# Altium footprint library TSSOP.PcbLib: 12 footprints
Each footprint in its own frame and in the unit in brackets; x right, y up, seen from the top. Pads: shape width x height; smd on the part's side, far side on the other; paste and mask are expansions set on the pad; w line width, h text height; cw(c..) or ccw(c..) is an arc to the next point about the centre after c.
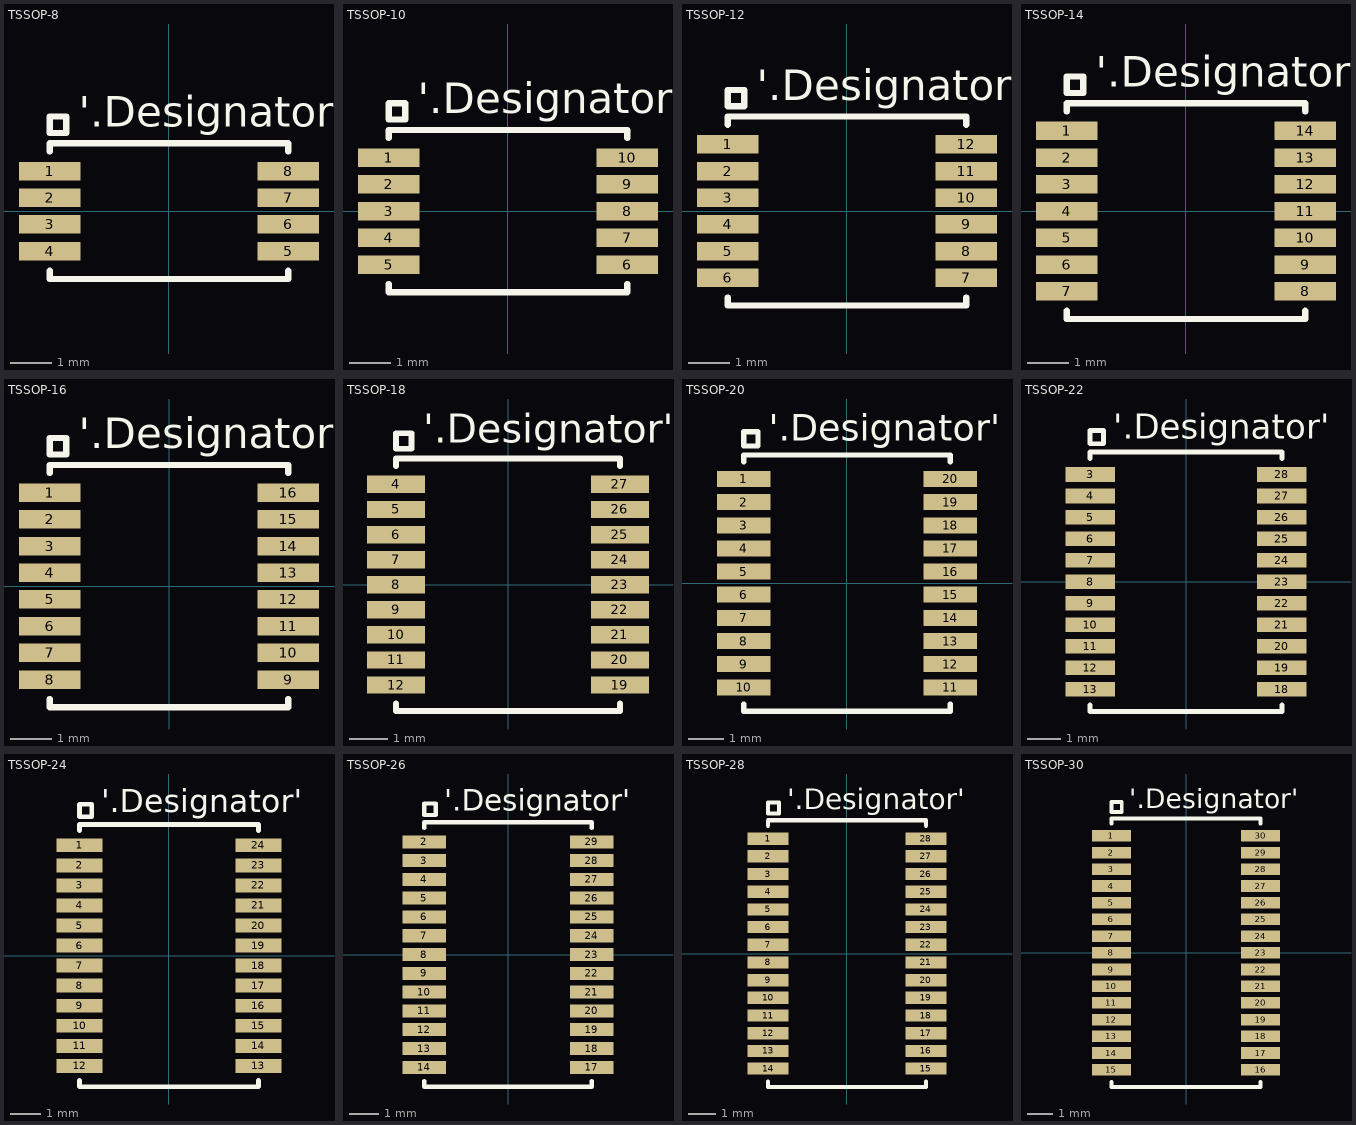
[diagram p0: the footprints below, top view; thin cyan lines are the x and y axes]

## TSSOP-8 [mm]
pads (8):
  rect 1.5x0.45 smd: 1(-2.9,0.975) 2(-2.9,0.325) 3(-2.9,-0.325) 4(-2.9,-0.975) 5(2.9,-0.975) 6(2.9,-0.325) 7(2.9,0.325) 8(2.9,0.975)
Top Overlay:
  lines w0.15: -2.9,-1.45 -2.9,-1.65 2.9,-1.65 2.9,-1.45 ; -2.9,1.45 -2.9,1.65 2.9,1.65 2.9,1.45 ; -2.9,1.9 -2.9,2.3 -2.5,2.3 -2.5,1.9 -2.9,1.9
  text "'.Designator'" at -2.2,2.05 h0.75

## TSSOP-10 [mm]
pads (10):
  rect 1.5x0.45 smd: 1(-2.9,1.3) 2(-2.9,0.65) 3(-2.9,0) 4(-2.9,-0.65) 5(-2.9,-1.3) 6(2.9,-1.3) 7(2.9,-0.65) 8(2.9,0) 9(2.9,0.65) 10(2.9,1.3)
Top Overlay:
  lines w0.15: -2.9,-1.775 -2.9,-1.975 2.9,-1.975 2.9,-1.775 ; -2.9,1.775 -2.9,1.975 2.9,1.975 2.9,1.775 ; -2.9,2.225 -2.9,2.625 -2.5,2.625 -2.5,2.225 -2.9,2.225
  text "'.Designator'" at -2.2,2.375 h0.75

## TSSOP-12 [mm]
pads (12):
  rect 1.5x0.45 smd: 1(-2.9,1.625) 2(-2.9,0.975) 3(-2.9,0.325) 4(-2.9,-0.325) 5(-2.9,-0.975) 6(-2.9,-1.625) 7(2.9,-1.625) 8(2.9,-0.975) 9(2.9,-0.325) 10(2.9,0.325) 11(2.9,0.975) 12(2.9,1.625)
Top Overlay:
  lines w0.15: -2.9,-2.1 -2.9,-2.3 2.9,-2.3 2.9,-2.1 ; -2.9,2.1 -2.9,2.3 2.9,2.3 2.9,2.1 ; -2.9,2.55 -2.5,2.55 -2.5,2.95 -2.9,2.95 -2.9,2.55
  text "'.Designator'" at -2.2,2.7 h0.75

## TSSOP-14 [mm]
pads (14):
  rect 1.5x0.45 smd: 1(-2.9,1.95) 2(-2.9,1.3) 3(-2.9,0.65) 4(-2.9,0) 5(-2.9,-0.65) 6(-2.9,-1.3) 7(-2.9,-1.95) 8(2.9,-1.95) 9(2.9,-1.3) 10(2.9,-0.65) 11(2.9,0) 12(2.9,0.65) 13(2.9,1.3) 14(2.9,1.95)
Top Overlay:
  lines w0.15: -2.9,-2.425 -2.9,-2.625 2.9,-2.625 2.9,-2.425 ; -2.9,2.425 -2.9,2.625 2.9,2.625 2.9,2.425 ; -2.9,2.875 -2.5,2.875 -2.5,3.275 -2.9,3.275 -2.9,2.875
  text "'.Designator'" at -2.2,3.025 h0.75

## TSSOP-16 [mm]
pads (16):
  rect 1.5x0.45 smd: 1(-2.9,2.275) 2(-2.9,1.625) 3(-2.9,0.975) 4(-2.9,0.325) 5(-2.9,-0.325) 6(-2.9,-0.975) 7(-2.9,-1.625) 8(-2.9,-2.275) 9(2.9,-2.275) 10(2.9,-1.625) 11(2.9,-0.975) 12(2.9,-0.325) 13(2.9,0.325) 14(2.9,0.975) 15(2.9,1.625) 16(2.9,2.275)
Top Overlay:
  lines w0.15: -2.9,-2.75 -2.9,-2.95 2.9,-2.95 2.9,-2.75 ; -2.9,2.75 -2.9,2.95 2.9,2.95 2.9,2.75 ; -2.9,3.2 -2.5,3.2 -2.5,3.6 -2.9,3.6 -2.9,3.2
  text "'.Designator'" at -2.2,3.35 h0.75

## TSSOP-18 [mm]
pads (18):
  rect 1.5x0.45 smd: 4(-2.9,2.6) 5(-2.9,1.95) 6(-2.9,1.3) 7(-2.9,0.65) 8(-2.9,0) 9(-2.9,-0.65) 10(-2.9,-1.3) 11(-2.9,-1.95) 12(-2.9,-2.6) 19(2.9,-2.6) 20(2.9,-1.95) 21(2.9,-1.3) 22(2.9,-0.65) 23(2.9,0) 24(2.9,0.65) 25(2.9,1.3) 26(2.9,1.95) 27(2.9,2.6)
Top Overlay:
  lines w0.15: -2.9,-3.075 -2.9,-3.275 2.9,-3.275 2.9,-3.075 ; -2.9,3.075 -2.9,3.275 2.9,3.275 2.9,3.075 ; -2.9,3.525 -2.9,3.925 -2.5,3.925 -2.5,3.525 -2.9,3.525
  text "'.Designator'" at -2.2,3.675 h0.75

## TSSOP-20 [mm]
pads (20):
  rect 1.5x0.45 smd: 1(-2.9,2.925) 2(-2.9,2.275) 3(-2.9,1.625) 4(-2.9,0.975) 5(-2.9,0.325) 6(-2.9,-0.325) 7(-2.9,-0.975) 8(-2.9,-1.625) 9(-2.9,-2.275) 10(-2.9,-2.925) 11(2.9,-2.925) 12(2.9,-2.275) 13(2.9,-1.625) 14(2.9,-0.975) 15(2.9,-0.325) 16(2.9,0.325) 17(2.9,0.975) 18(2.9,1.625) 19(2.9,2.275) 20(2.9,2.925)
Top Overlay:
  lines w0.15: -2.9,-3.4 -2.9,-3.6 2.9,-3.6 2.9,-3.4 ; -2.9,3.4 -2.9,3.6 2.9,3.6 2.9,3.4 ; -2.9,3.85 -2.5,3.85 -2.5,4.25 -2.9,4.25 -2.9,3.85
  text "'.Designator'" at -2.2,4 h0.75

## TSSOP-22 [mm]
pads (22):
  rect 1.5x0.45 smd: 3(-2.9,3.25) 4(-2.9,2.6) 5(-2.9,1.95) 6(-2.9,1.3) 7(-2.9,0.65) 8(-2.9,0) 9(-2.9,-0.65) 10(-2.9,-1.3) 11(-2.9,-1.95) 12(-2.9,-2.6) 13(-2.9,-3.25) 18(2.9,-3.25) 19(2.9,-2.6) 20(2.9,-1.95) 21(2.9,-1.3) 22(2.9,-0.65) 23(2.9,0) 24(2.9,0.65) 25(2.9,1.3) 26(2.9,1.95) 27(2.9,2.6) 28(2.9,3.25)
Top Overlay:
  lines w0.15: -2.9,-3.725 -2.9,-3.925 2.9,-3.925 2.9,-3.725 ; -2.9,3.725 -2.9,3.925 2.9,3.925 2.9,3.725 ; -2.9,4.175 -2.5,4.175 -2.5,4.575 -2.9,4.575 -2.9,4.175
  text "'.Designator'" at -2.2,4.325 h0.75

## TSSOP-24 [mm]
pads (24):
  rect 1.5x0.45 smd: 1(-2.9,3.575) 2(-2.9,2.925) 3(-2.9,2.275) 4(-2.9,1.625) 5(-2.9,0.975) 6(-2.9,0.325) 7(-2.9,-0.325) 8(-2.9,-0.975) 9(-2.9,-1.625) 10(-2.9,-2.275) 11(-2.9,-2.925) 12(-2.9,-3.575) 13(2.9,-3.575) 14(2.9,-2.925) 15(2.9,-2.275) 16(2.9,-1.625) 17(2.9,-0.975) 18(2.9,-0.325) 19(2.9,0.325) 20(2.9,0.975) 21(2.9,1.625) 22(2.9,2.275) 23(2.9,2.925) 24(2.9,3.575)
Top Overlay:
  lines w0.15: -2.9,-4.05 -2.9,-4.25 2.9,-4.25 2.9,-4.05 ; -2.9,4.05 -2.9,4.25 2.9,4.25 2.9,4.05 ; -2.9,4.5 -2.9,4.9 -2.5,4.9 -2.5,4.5 -2.9,4.5
  text "'.Designator'" at -2.2,4.65 h0.75

## TSSOP-26 [mm]
pads (26):
  rect 1.5x0.45 smd: 2(-2.9,3.9) 3(-2.9,3.25) 4(-2.9,2.6) 5(-2.9,1.95) 6(-2.9,1.3) 7(-2.9,0.65) 8(-2.9,0) 9(-2.9,-0.65) 10(-2.9,-1.3) 11(-2.9,-1.95) 12(-2.9,-2.6) 13(-2.9,-3.25) 14(-2.9,-3.9) 17(2.9,-3.9) 18(2.9,-3.25) 19(2.9,-2.6) 20(2.9,-1.95) 21(2.9,-1.3) 22(2.9,-0.65) 23(2.9,0) 24(2.9,0.65) 25(2.9,1.3) 26(2.9,1.95) 27(2.9,2.6) 28(2.9,3.25) 29(2.9,3.9)
Top Overlay:
  lines w0.15: -2.9,-4.375 -2.9,-4.575 2.9,-4.575 2.9,-4.375 ; -2.9,4.375 -2.9,4.575 2.9,4.575 2.9,4.375 ; -2.9,4.825 -2.5,4.825 -2.5,5.225 -2.9,5.225 -2.9,4.825
  text "'.Designator'" at -2.2,4.975 h0.75

## TSSOP-28 [mm]
pads (28):
  rect 1.5x0.45 smd: 1(-2.9,4.225) 2(-2.9,3.575) 3(-2.9,2.925) 4(-2.9,2.275) 5(-2.9,1.625) 6(-2.9,0.975) 7(-2.9,0.325) 8(-2.9,-0.325) 9(-2.9,-0.975) 10(-2.9,-1.625) 11(-2.9,-2.275) 12(-2.9,-2.925) 13(-2.9,-3.575) 14(-2.9,-4.225) 15(2.9,-4.225) 16(2.9,-3.575) 17(2.9,-2.925) 18(2.9,-2.275) 19(2.9,-1.625) 20(2.9,-0.975) 21(2.9,-0.325) 22(2.9,0.325) 23(2.9,0.975) 24(2.9,1.625) 25(2.9,2.275) 26(2.9,2.925) 27(2.9,3.575) 28(2.9,4.225)
Top Overlay:
  lines w0.15: -2.9,-4.7 -2.9,-4.9 2.9,-4.9 2.9,-4.7 ; -2.9,4.7 -2.9,4.9 2.9,4.9 2.9,4.7 ; -2.9,5.15 -2.9,5.55 -2.5,5.55 -2.5,5.15 -2.9,5.15
  text "'.Designator'" at -2.2,5.3 h0.75

## TSSOP-30 [mm]
pads (30):
  rect 1.5x0.45 smd: 1(-2.9,4.55) 2(-2.9,3.9) 3(-2.9,3.25) 4(-2.9,2.6) 5(-2.9,1.95) 6(-2.9,1.3) 7(-2.9,0.65) 8(-2.9,0) 9(-2.9,-0.65) 10(-2.9,-1.3) 11(-2.9,-1.95) 12(-2.9,-2.6) 13(-2.9,-3.25) 14(-2.9,-3.9) 15(-2.9,-4.55) 16(2.9,-4.55) 17(2.9,-3.9) 18(2.9,-3.25) 19(2.9,-2.6) 20(2.9,-1.95) 21(2.9,-1.3) 22(2.9,-0.65) 23(2.9,0) 24(2.9,0.65) 25(2.9,1.3) 26(2.9,1.95) 27(2.9,2.6) 28(2.9,3.25) 29(2.9,3.9) 30(2.9,4.55)
Top Overlay:
  lines w0.15: -2.9,-5.025 -2.9,-5.225 2.9,-5.225 2.9,-5.025 ; -2.9,5.025 -2.9,5.225 2.9,5.225 2.9,5.025 ; -2.9,5.475 -2.9,5.875 -2.5,5.875 -2.5,5.475 -2.9,5.475
  text "'.Designator'" at -2.2,5.625 h0.75